# Altium schematic symbol library SMD-RGB-HI-LIGHT(6P-L5.0W5.0H1.5MM).SchLib: 1 symbol
Pins are listed as number, name and electrical type; pins without a type are passive.

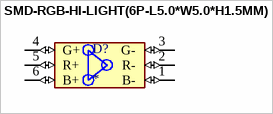
[diagram p0: symbol SMD-RGB-HI-LIGHT(6P-L5.0*W5.0*H1.5MM)]

## SMD-RGB-HI-LIGHT(6P-L5.0*W5.0*H1.5MM)
designator D?
Addressable Lighting - 1 LED Discrete PWM Red, Green, Blue (RGB) 5.00mm L x 5.00mm W; MF: SparkFun Electronics; MP: 5050RGB; Check_prices: https://www.snapeda.com/parts/5050RGB/SparkFun+Electronics/view-part/?ref=eda; SnapEDA_Link: https://www.snapeda.com/parts/5050RGB/SparkFun+Electronics/view-part/?ref=snap; Availability: Not in stock; Value: *; Price: None; Package: SparkFun Electronics
footprint LED6-SMD-5050
pins: 1 B- (io), 2 R- (io), 3 G- (io), 4 G+ (io), 5 R+ (io), 6 B+ (io)